# EAGLE library part MAX17043G+T (library MAX17043G_T)
Check availability <https://pricing.snapeda.com/parts/MAX17043G%2BT/Analog%20Devices/view-part?ref=eda>
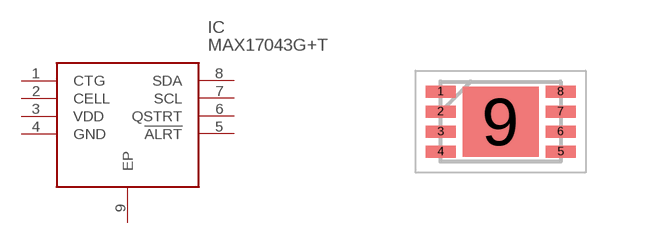
[diagram p0: symbol with the pads of SON50P300X200X80-9N; footprint SON50P300X200X80-9N]

Designator prefix IC

## MAX17043G+T (Availability: In Stock; Check_prices: https://www.snapeda.com/parts/MAX17043G+T/Analog+Devices/view-part/?ref=eda; Description: 1-Cell/2-Cell Fuel Gauge with ModelGauge and Low-Battery Alert; MF: Analog Devices; MP: MAX17043G+T; Package: TDFN-8 Maxim; Price: None; SnapEDA_Link: https://www.snapeda.com/parts/MAX17043G+T/Analog+Devices/view-part/?ref=snap)  [SON50P300X200X80-9N]
1  CTG
2  CELL
3  VDD
4  GND
5  !ALRT
6  QSTRT
7  SCL
8  SDA
9  EP

## Footprint SON50P300X200X80-9N (pad centres in mm)
8L-TDFN - 21-0174
smd 0.75 x 0.3: 1 -1.5,0.75; 2 -1.5,0.25; 3 -1.5,-0.25; 4 -1.5,-0.75; 5 1.5,-0.75; 6 1.5,-0.25; 7 1.5,0.25; 8 1.5,0.75
smd 1.9 x 1.75: 9 0,0